# Altium footprint library Capacitor_SMD.PcbLib: 101 footprints (part 4 of 7)
Each footprint in its own frame and in the unit in brackets; x right, y up, seen from the top. Pads: shape width x height; smd on the part's side, far side on the other; paste and mask are expansions set on the pad; w line width, h text height; cw(c..) or ccw(c..) is an arc to the next point about the centre after c.
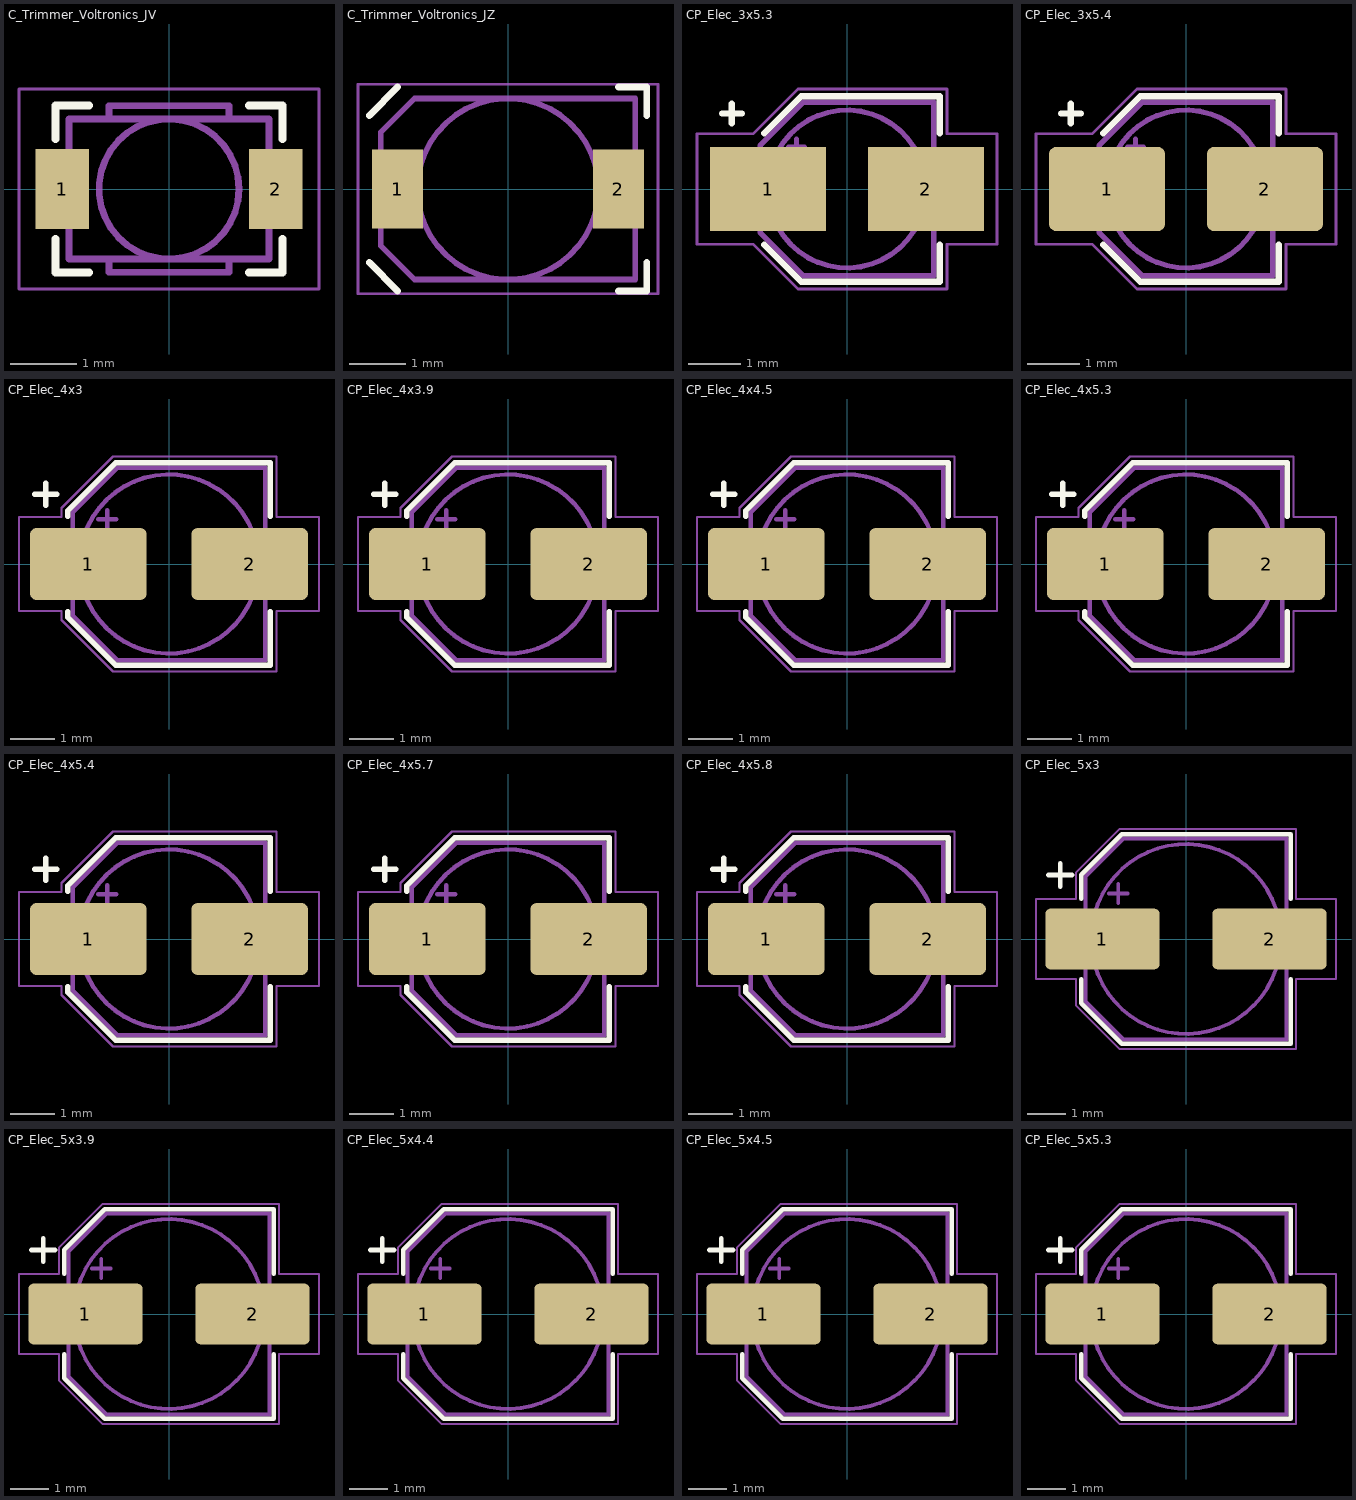
[diagram p3: the footprints below, top view; thin cyan lines are the x and y axes]

## C_Trimmer_Voltronics_JV [mm]
pads (2):
  rect 0.8x1.2 smd: 1(-1.6,0) 2(1.6,0)
F.SilkS:
  lines w0.12: -1.7,-0.75 -1.7,-1.25 -1.2,-1.25 ; -1.7,0.75 -1.7,1.25 -1.2,1.25 ; 1.2,-1.25 1.7,-1.25 1.7,-0.75 ; 1.2,1.25 1.7,1.25 1.7,0.75
F.CrtYd:
  lines w0.05: -2.25,-1.5 2.25,-1.5 2.25,1.5 -2.25,1.5 -2.25,-1.5
F.Fab:
  circle w0.1: c0,0 r1.05
  lines w0.1: -0.9,-1.05 -0.9,-1.25 0.9,-1.25 0.9,-1.05 ; -0.9,1.05 -0.9,1.25 0.9,1.25 0.9,1.05 ; 1.5,-0.5 1.7,-0.5 1.7,0.5 1.5,0.5 ; -1.5,-1.05 -1.49,-1.05 1.49,-1.05 1.5,-1.05 1.5,-1.04 1.5,1.04 1.5,1.05 1.49,1.05 -1.49,1.05 -1.5,1.05 -1.5,1.04 -1.5,-1.04 -1.5,-1.05
  text "'.Designator'" at -1.998,-0.395 h0.5
3D body "C_Trimmer_Voltronics_JV.step": height 1.26, standoff 0.01, extent -1.6,-1.25 1.6,1.25

## C_Trimmer_Voltronics_JZ [mm]
pads (2):
  rect 0.9x1.4 smd: 1(-1.95,0) 2(1.95,0)
F.SilkS:
  lines w0.12: -2.45,-1.3 -1.95,-1.8 ; -2.45,1.3 -1.95,1.8 ; 1.95,-1.8 2.45,-1.8 2.45,-1.3 ; 1.95,1.8 2.45,1.8 2.45,1.3
F.CrtYd:
  lines w0.05: -2.65,-1.85 -2.65,1.85 2.65,1.85 2.65,-1.85 -2.65,-1.85
F.Fab:
  circle w0.1: c0,0 r1.6
  lines w0.1: -2.25,-1 -1.95,-1.3 -1.65,-1.6 2.24,-1.6 2.25,-1.6 2.25,-1.59 2.25,1.59 2.25,1.6 2.24,1.6 -1.65,1.6 -1.95,1.3 -2.25,1 -2.25,-1
  text "'.Designator'" at -1.998,-0.395 h0.5
3D body "C_Trimmer_Voltronics_JZ.step": height 1.51, standoff 0.01, extent -2.25,-1.6 2.25,1.6

## CP_Elec_3x5.3 [mm]
pads (2):
  rect 2.2x1.6 smd: 1(-1.5,0) 2(1.5,0)
F.SilkS:
  lines w0.12: -2.375,1.435 -2,1.435 ; -2.187,1.248 -2.187,1.623 ; -1.571,-1.06 -0.871,-1.76 1.76,-1.76 1.76,-1.06 ; -1.571,1.06 -0.871,1.76 1.76,1.76 1.76,1.06
F.CrtYd:
  lines w0.05: -2.85,-1.05 -2.85,1.05 -1.78,1.05 -0.93,1.9 1.9,1.9 1.9,1.05 2.85,1.05 2.85,-1.05 1.9,-1.05 1.9,-1.9 -0.93,-1.9 -1.78,-1.05 -2.85,-1.05
F.Fab:
  circle w0.1: c0,0 r1.5
  lines w0.1: -1.11,0.8 -0.81,0.8 ; -0.96,0.65 -0.96,0.95 ; -1.65,-0.825 -1.65,0.825 -0.825,1.65 1.65,1.65 1.65,-1.65 -0.825,-1.65 -1.65,-0.825
  text "'.Designator'" at -2.428,-0.504 h0.6
3D body "CP_Elec_3x5.3.step": height 5.3, standoff 0, extent -1.9,-1.65 1.9,1.65

## CP_Elec_3x5.4 [mm]
pads (2):
  rrect16% 2.2x1.6 smd: 1(-1.5,0) 2(1.5,0)
F.SilkS:
  lines w0.12: -2.375,1.435 -2,1.435 ; -2.187,1.248 -2.187,1.623 ; -1.571,-1.06 -0.871,-1.76 1.76,-1.76 1.76,-1.06 ; -1.571,1.06 -0.871,1.76 1.76,1.76 1.76,1.06
F.CrtYd:
  lines w0.05: -2.85,-1.05 -1.78,-1.05 -0.93,-1.9 1.9,-1.9 1.9,-1.05 2.85,-1.05 2.85,1.05 1.9,1.05 1.9,1.9 -0.93,1.9 -1.78,1.05 -2.85,1.05 -2.85,-1.05
F.Fab:
  circle w0.1: c0,0 r1.5
  lines w0.1: -1.11,0.8 -0.81,0.8 ; -0.96,0.65 -0.96,0.95 ; -1.65,-0.825 -0.825,-1.65 1.65,-1.65 1.65,1.65 -0.825,1.65 -1.65,0.825 -1.65,-0.825
  text "'.Designator'" at -2.428,-0.504 h0.6
3D body "CP_Elec_3x5.4.step": height 5.4, standoff 0, extent -1.9,-1.65 1.9,1.65

## CP_Elec_4x3 [mm]
pads (2):
  rrect16% 2.6x1.6 smd: 1(-1.8,0) 2(1.8,0)
F.SilkS:
  lines w0.12: -3,1.56 -2.5,1.56 ; -2.75,1.31 -2.75,1.81 ; -2.26,-1.06 -2.26,-1.196 -1.196,-2.26 2.26,-2.26 2.26,-1.06 ; -2.26,1.06 -2.26,1.196 -1.196,2.26 2.26,2.26 2.26,1.06
F.CrtYd:
  lines w0.05: -3.35,-1.05 -3.35,1.05 -2.4,1.05 -2.4,1.25 -1.25,2.4 2.4,2.4 2.4,1.05 3.35,1.05 3.35,-1.05 2.4,-1.05 2.4,-2.4 -1.25,-2.4 -2.4,-1.25 -2.4,-1.05 -3.35,-1.05
F.Fab:
  circle w0.1: c0,0 r2
  lines w0.1: -1.575,1 -1.175,1 ; -1.375,0.8 -1.375,1.2 ; -2.15,-1.15 -1.15,-2.15 2.15,-2.15 2.15,2.15 -1.15,2.15 -2.15,1.15 -2.15,-1.15
  text "'.Designator'" at -3.237,-0.672 h0.8
3D body "CP_Elec_4x3.step": height 3, standoff 0, extent -2.75,-2.15 2.75,2.15

## CP_Elec_4x3.9 [mm]
pads (2):
  rrect16% 2.6x1.6 smd: 1(-1.8,0) 2(1.8,0)
F.SilkS:
  lines w0.12: -3,1.56 -2.5,1.56 ; -2.75,1.31 -2.75,1.81 ; -2.26,-1.06 -2.26,-1.196 -1.196,-2.26 2.26,-2.26 2.26,-1.06 ; -2.26,1.06 -2.26,1.196 -1.196,2.26 2.26,2.26 2.26,1.06
F.CrtYd:
  lines w0.05: -3.35,-1.05 -2.4,-1.05 -2.4,-1.25 -1.25,-2.4 2.4,-2.4 2.4,-1.05 3.35,-1.05 3.35,1.05 2.4,1.05 2.4,2.4 -1.25,2.4 -2.4,1.25 -2.4,1.05 -3.35,1.05 -3.35,-1.05
F.Fab:
  circle w0.1: c0,0 r2
  lines w0.1: -1.575,1 -1.175,1 ; -1.375,0.8 -1.375,1.2 ; -2.15,-1.15 -2.15,1.15 -1.15,2.15 2.15,2.15 2.15,-2.15 -1.15,-2.15 -2.15,-1.15
  text "'.Designator'" at -3.237,-0.672 h0.8
3D body "CP_Elec_4x3.9.step": height 3.9, standoff 0, extent -2.75,-2.15 2.75,2.15

## CP_Elec_4x4.5 [mm]
pads (2):
  rrect16% 2.6x1.6 smd: 1(-1.8,0) 2(1.8,0)
F.SilkS:
  lines w0.12: -3,1.56 -2.5,1.56 ; -2.75,1.31 -2.75,1.81 ; -2.26,-1.06 -2.26,-1.196 -1.196,-2.26 2.26,-2.26 2.26,-1.06 ; -2.26,1.06 -2.26,1.196 -1.196,2.26 2.26,2.26 2.26,1.06
F.CrtYd:
  lines w0.05: -3.35,-1.05 -3.35,1.05 -2.4,1.05 -2.4,1.25 -1.25,2.4 2.4,2.4 2.4,1.05 3.35,1.05 3.35,-1.05 2.4,-1.05 2.4,-2.4 -1.25,-2.4 -2.4,-1.25 -2.4,-1.05 -3.35,-1.05
F.Fab:
  circle w0.1: c0,0 r2
  lines w0.1: -1.575,1 -1.175,1 ; -1.375,0.8 -1.375,1.2 ; -2.15,-1.15 -1.15,-2.15 2.15,-2.15 2.15,2.15 -1.15,2.15 -2.15,1.15 -2.15,-1.15
  text "'.Designator'" at -3.237,-0.672 h0.8
3D body "CP_Elec_4x4.5.step": height 4.5, standoff 0, extent -2.75,-2.15 2.75,2.15

## CP_Elec_4x5.3 [mm]
pads (2):
  rrect16% 2.6x1.6 smd: 1(-1.8,0) 2(1.8,0)
F.SilkS:
  lines w0.12: -3,1.56 -2.5,1.56 ; -2.75,1.31 -2.75,1.81 ; -2.26,-1.06 -2.26,-1.196 -1.196,-2.26 2.26,-2.26 2.26,-1.06 ; -2.26,1.06 -2.26,1.196 -1.196,2.26 2.26,2.26 2.26,1.06
F.CrtYd:
  lines w0.05: -3.35,-1.05 -2.4,-1.05 -2.4,-1.25 -1.25,-2.4 2.4,-2.4 2.4,-1.05 3.35,-1.05 3.35,1.05 2.4,1.05 2.4,2.4 -1.25,2.4 -2.4,1.25 -2.4,1.05 -3.35,1.05 -3.35,-1.05
F.Fab:
  circle w0.1: c0,0 r2
  lines w0.1: -1.575,1 -1.175,1 ; -1.375,0.8 -1.375,1.2 ; -2.15,-1.15 -1.15,-2.15 2.15,-2.15 2.15,2.15 -1.15,2.15 -2.15,1.15 -2.15,-1.15
  text "'.Designator'" at -3.237,-0.672 h0.8
3D body "CP_Elec_4x5.3.step": height 5.3, standoff 0, extent -2.75,-2.15 2.75,2.15

## CP_Elec_4x5.4 [mm]
pads (2):
  rrect16% 2.6x1.6 smd: 1(-1.8,0) 2(1.8,0)
F.SilkS:
  lines w0.12: -3,1.56 -2.5,1.56 ; -2.75,1.31 -2.75,1.81 ; -2.26,-1.06 -2.26,-1.196 -1.196,-2.26 2.26,-2.26 2.26,-1.06 ; -2.26,1.06 -2.26,1.196 -1.196,2.26 2.26,2.26 2.26,1.06
F.CrtYd:
  lines w0.05: -3.35,-1.05 -3.35,1.05 -2.4,1.05 -2.4,1.25 -1.25,2.4 2.4,2.4 2.4,1.05 3.35,1.05 3.35,-1.05 2.4,-1.05 2.4,-2.4 -1.25,-2.4 -2.4,-1.25 -2.4,-1.05 -3.35,-1.05
F.Fab:
  circle w0.1: c0,0 r2
  lines w0.1: -1.575,1 -1.175,1 ; -1.375,0.8 -1.375,1.2 ; -2.15,-1.15 -1.15,-2.15 2.15,-2.15 2.15,2.15 -1.15,2.15 -2.15,1.15 -2.15,-1.15
  text "'.Designator'" at -3.237,-0.672 h0.8
3D body "CP_Elec_4x5.4.step": height 5.4, standoff 0, extent -2.75,-2.15 2.75,2.15

## CP_Elec_4x5.7 [mm]
pads (2):
  rrect16% 2.6x1.6 smd: 1(-1.8,0) 2(1.8,0)
F.SilkS:
  lines w0.12: -3,1.56 -2.5,1.56 ; -2.75,1.31 -2.75,1.81 ; -2.26,-1.06 -2.26,-1.196 -1.196,-2.26 2.26,-2.26 2.26,-1.06 ; -2.26,1.06 -2.26,1.196 -1.196,2.26 2.26,2.26 2.26,1.06
F.CrtYd:
  lines w0.05: -3.35,-1.05 -2.4,-1.05 -2.4,-1.25 -1.25,-2.4 2.4,-2.4 2.4,-1.05 3.35,-1.05 3.35,1.05 2.4,1.05 2.4,2.4 -1.25,2.4 -2.4,1.25 -2.4,1.05 -3.35,1.05 -3.35,-1.05
F.Fab:
  circle w0.1: c0,0 r2
  lines w0.1: -1.575,1 -1.175,1 ; -1.375,0.8 -1.375,1.2 ; -2.15,-1.15 -2.15,1.15 -1.15,2.15 2.15,2.15 2.15,-2.15 -1.15,-2.15 -2.15,-1.15
  text "'.Designator'" at -3.237,-0.672 h0.8
3D body "CP_Elec_4x5.7.step": height 5.7, standoff 0, extent -2.75,-2.15 2.75,2.15

## CP_Elec_4x5.8 [mm]
pads (2):
  rrect16% 2.6x1.6 smd: 1(-1.8,0) 2(1.8,0)
F.SilkS:
  lines w0.12: -3,1.56 -2.5,1.56 ; -2.75,1.31 -2.75,1.81 ; -2.26,-1.06 -2.26,-1.196 -1.196,-2.26 2.26,-2.26 2.26,-1.06 ; -2.26,1.06 -2.26,1.196 -1.196,2.26 2.26,2.26 2.26,1.06
F.CrtYd:
  lines w0.05: -3.35,-1.05 -3.35,1.05 -2.4,1.05 -2.4,1.25 -1.25,2.4 2.4,2.4 2.4,1.05 3.35,1.05 3.35,-1.05 2.4,-1.05 2.4,-2.4 -1.25,-2.4 -2.4,-1.25 -2.4,-1.05 -3.35,-1.05
F.Fab:
  circle w0.1: c0,0 r2
  lines w0.1: -1.575,1 -1.175,1 ; -1.375,0.8 -1.375,1.2 ; -2.15,-1.15 -1.15,-2.15 2.15,-2.15 2.15,2.15 -1.15,2.15 -2.15,1.15 -2.15,-1.15
  text "'.Designator'" at -3.237,-0.672 h0.8
3D body "CP_Elec_4x5.8.step": height 5.8, standoff 0, extent -2.75,-2.15 2.75,2.15

## CP_Elec_5x3 [mm]
pads (2):
  rrect16% 3x1.6 smd: 1(-2.2,0) 2(2.2,0)
F.SilkS:
  lines w0.12: -3.625,1.685 -3,1.685 ; -3.313,1.372 -3.313,1.997 ; -2.76,-1.06 -2.76,-1.696 -1.696,-2.76 2.76,-2.76 2.76,-1.06 ; -2.76,1.06 -2.76,1.696 -1.696,2.76 2.76,2.76 2.76,1.06
F.CrtYd:
  lines w0.05: -3.95,-1.05 -3.95,1.05 -2.9,1.05 -2.9,1.75 -1.75,2.9 2.9,2.9 2.9,1.05 3.95,1.05 3.95,-1.05 2.9,-1.05 2.9,-2.9 -1.75,-2.9 -2.9,-1.75 -2.9,-1.05 -3.95,-1.05
F.Fab:
  circle w0.1: c0,0 r2.5
  lines w0.1: -2.034,1.2 -1.534,1.2 ; -1.784,0.95 -1.784,1.45 ; -2.65,-1.65 -1.65,-2.65 2.65,-2.65 2.65,2.65 -1.65,2.65 -2.65,1.65 -2.65,-1.65
  text "'.Designator'" at -4.047,-0.84 h1
3D body "CP_Elec_5x3.step": height 3, standoff 0, extent -3.25,-2.65 3.25,2.65

## CP_Elec_5x3.9 [mm]
pads (2):
  rrect16% 3x1.6 smd: 1(-2.2,0) 2(2.2,0)
F.SilkS:
  lines w0.12: -3.625,1.685 -3,1.685 ; -3.313,1.372 -3.313,1.997 ; -2.76,-1.06 -2.76,-1.696 -1.696,-2.76 2.76,-2.76 2.76,-1.06 ; -2.76,1.06 -2.76,1.696 -1.696,2.76 2.76,2.76 2.76,1.06
F.CrtYd:
  lines w0.05: -3.95,-1.05 -3.95,1.05 -2.9,1.05 -2.9,1.75 -1.75,2.9 2.9,2.9 2.9,1.05 3.95,1.05 3.95,-1.05 2.9,-1.05 2.9,-2.9 -1.75,-2.9 -2.9,-1.75 -2.9,-1.05 -3.95,-1.05
F.Fab:
  circle w0.1: c0,0 r2.5
  lines w0.1: -2.034,1.2 -1.534,1.2 ; -1.784,0.95 -1.784,1.45 ; -2.65,-1.65 -1.65,-2.65 2.65,-2.65 2.65,2.65 -1.65,2.65 -2.65,1.65 -2.65,-1.65
  text "'.Designator'" at -4.047,-0.84 h1
3D body "CP_Elec_5x3.9.step": height 3.9, standoff 0, extent -3.25,-2.65 3.25,2.65

## CP_Elec_5x4.4 [mm]
pads (2):
  rrect16% 3x1.6 smd: 1(-2.2,0) 2(2.2,0)
F.SilkS:
  lines w0.12: -3.625,1.685 -3,1.685 ; -3.313,1.372 -3.313,1.997 ; -2.76,-1.06 -2.76,-1.696 -1.696,-2.76 2.76,-2.76 2.76,-1.06 ; -2.76,1.06 -2.76,1.696 -1.696,2.76 2.76,2.76 2.76,1.06
F.CrtYd:
  lines w0.05: -3.95,-1.05 -3.95,1.05 -2.9,1.05 -2.9,1.75 -1.75,2.9 2.9,2.9 2.9,1.05 3.95,1.05 3.95,-1.05 2.9,-1.05 2.9,-2.9 -1.75,-2.9 -2.9,-1.75 -2.9,-1.05 -3.95,-1.05
F.Fab:
  circle w0.1: c0,0 r2.5
  lines w0.1: -2.034,1.2 -1.534,1.2 ; -1.784,0.95 -1.784,1.45 ; -2.65,-1.65 -1.65,-2.65 2.65,-2.65 2.65,2.65 -1.65,2.65 -2.65,1.65 -2.65,-1.65
  text "'.Designator'" at -4.047,-0.84 h1
3D body "CP_Elec_5x4.4.step": height 4.4, standoff 0, extent -3.25,-2.65 3.25,2.65

## CP_Elec_5x4.5 [mm]
pads (2):
  rrect16% 3x1.6 smd: 1(-2.2,0) 2(2.2,0)
F.SilkS:
  lines w0.12: -3.625,1.685 -3,1.685 ; -3.313,1.372 -3.313,1.997 ; -2.76,-1.06 -2.76,-1.696 -1.696,-2.76 2.76,-2.76 2.76,-1.06 ; -2.76,1.06 -2.76,1.696 -1.696,2.76 2.76,2.76 2.76,1.06
F.CrtYd:
  lines w0.05: -3.95,-1.05 -3.95,1.05 -2.9,1.05 -2.9,1.75 -1.75,2.9 2.9,2.9 2.9,1.05 3.95,1.05 3.95,-1.05 2.9,-1.05 2.9,-2.9 -1.75,-2.9 -2.9,-1.75 -2.9,-1.05 -3.95,-1.05
F.Fab:
  circle w0.1: c0,0 r2.5
  lines w0.1: -2.034,1.2 -1.534,1.2 ; -1.784,0.95 -1.784,1.45 ; -2.65,-1.65 -1.65,-2.65 2.65,-2.65 2.65,2.65 -1.65,2.65 -2.65,1.65 -2.65,-1.65
  text "'.Designator'" at -4.047,-0.84 h1
3D body "CP_Elec_5x4.5.step": height 4.5, standoff 0, extent -3.25,-2.65 3.25,2.65

## CP_Elec_5x5.3 [mm]
pads (2):
  rrect16% 3x1.6 smd: 1(-2.2,0) 2(2.2,0)
F.SilkS:
  lines w0.12: -3.625,1.685 -3,1.685 ; -3.313,1.372 -3.313,1.997 ; -2.76,-1.06 -2.76,-1.696 -1.696,-2.76 2.76,-2.76 2.76,-1.06 ; -2.76,1.06 -2.76,1.696 -1.696,2.76 2.76,2.76 2.76,1.06
F.CrtYd:
  lines w0.05: -3.95,-1.05 -3.95,1.05 -2.9,1.05 -2.9,1.75 -1.75,2.9 2.9,2.9 2.9,1.05 3.95,1.05 3.95,-1.05 2.9,-1.05 2.9,-2.9 -1.75,-2.9 -2.9,-1.75 -2.9,-1.05 -3.95,-1.05
F.Fab:
  circle w0.1: c0,0 r2.5
  lines w0.1: -2.034,1.2 -1.534,1.2 ; -1.784,0.95 -1.784,1.45 ; -2.65,-1.65 -2.65,1.65 -1.65,2.65 2.65,2.65 2.65,-2.65 -1.65,-2.65 -2.65,-1.65
  text "'.Designator'" at -4.047,-0.84 h1
3D body "CP_Elec_5x5.3.step": height 5.3, standoff 0, extent -3.25,-2.65 3.25,2.65